# Altium footprint library Diode.PcbLib: 37 footprints (part 2 of 3)
Each footprint in its own frame and in the unit in brackets; x right, y up, seen from the top. Pads: shape width x height; smd on the part's side, far side on the other; paste and mask are expansions set on the pad; w line width, h text height; cw(c..) or ccw(c..) is an arc to the next point about the centre after c.
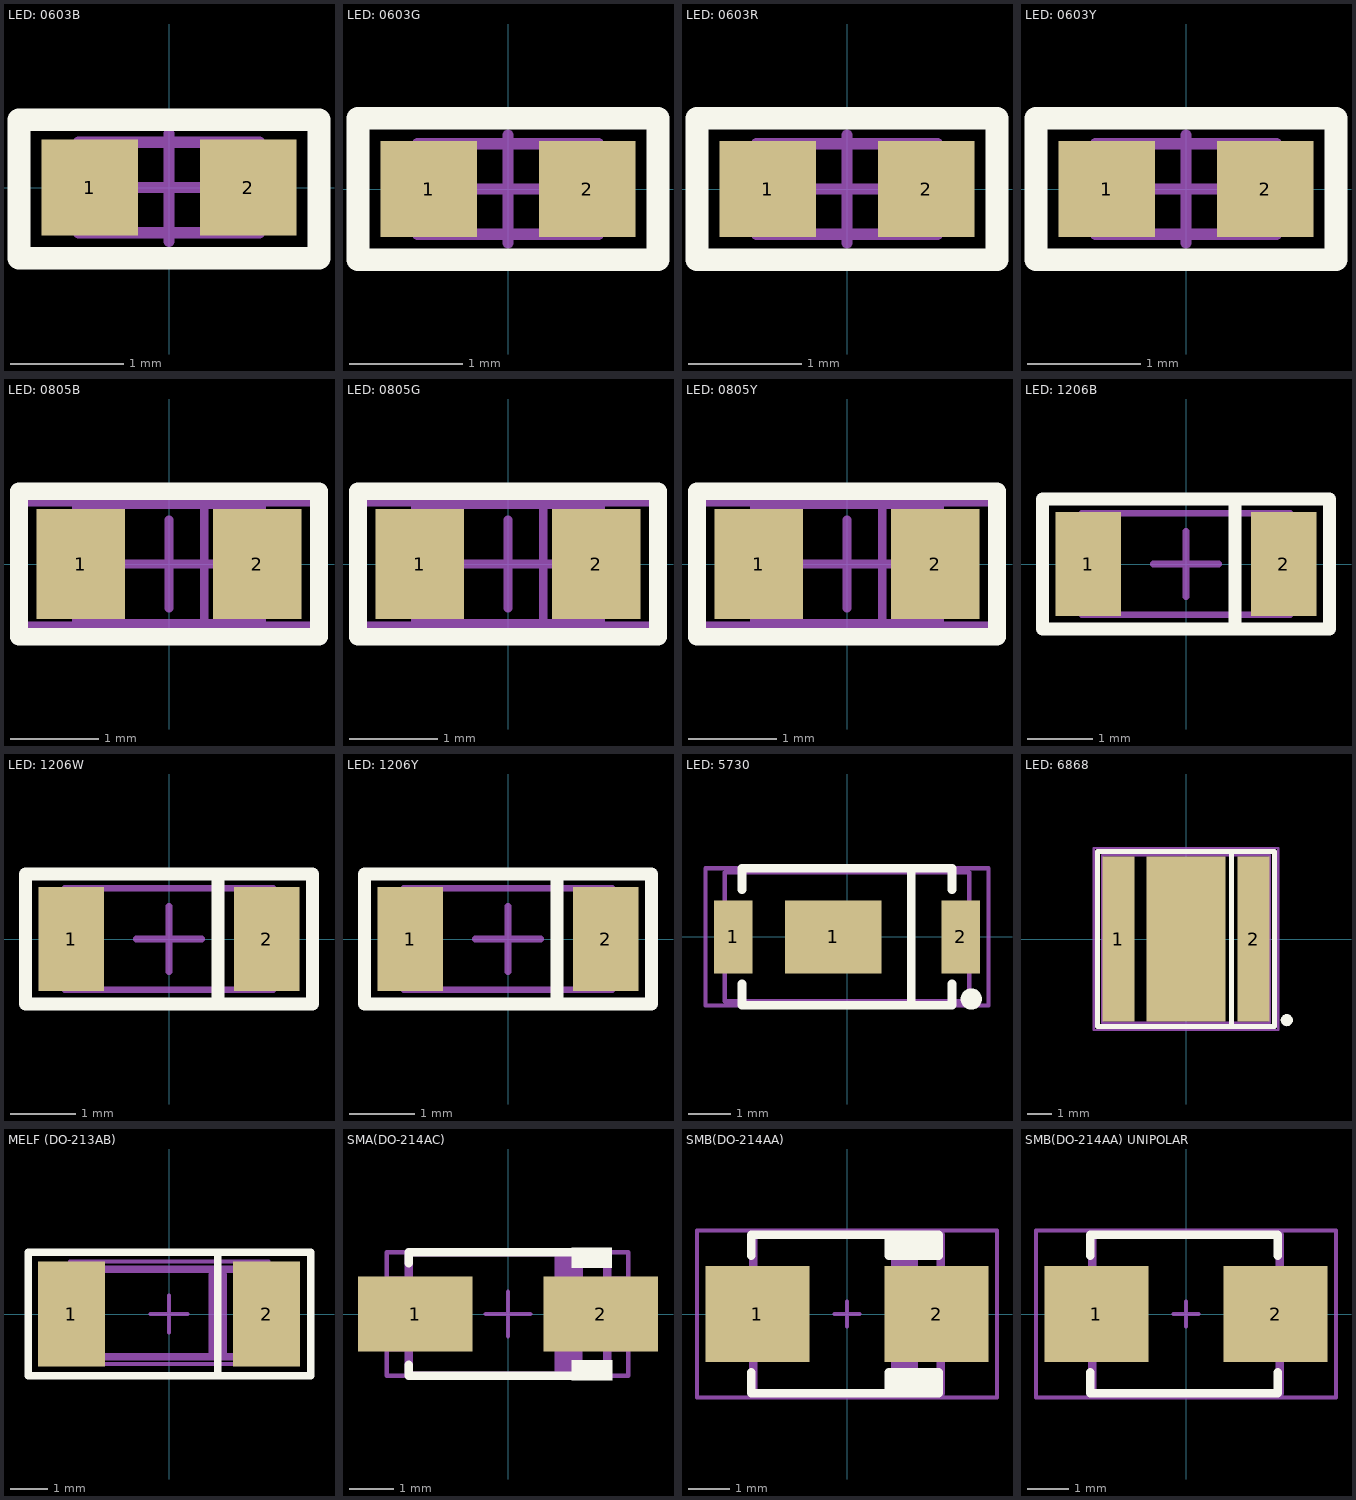
[diagram p1: the footprints below, top view; thin cyan lines are the x and y axes]

## LED: 0603B [mm]
height 0.45
pads (2):
  rect 0.85x0.85 smd: 1(-0.7,0) 2(0.7,0)
Top Overlay:
  lines w0.2: -1.325,-0.625 1.325,-0.625 1.325,0.6 -1.325,0.6 -1.325,-0.625
Top Assembly:
  lines w0.1: -0.8,-0.4 0.8,-0.4 0.8,0.4 -0.8,0.4 -0.8,-0.4
Area:
  lines w0.1: -0.475,0 0.475,0 ; 0,-0.475 0,0.475 ; -1.325,-0.625 -1.325,0.6 1.325,0.6 1.325,-0.625 -1.325,-0.625
3D body "User Library-LED_0603_B.STEP": height 0.6, standoff 0, extent -0.8,-0.4 0.8,0.4

## LED: 0603G [mm]
height 0.45
pads (2):
  rect 0.85x0.85 smd: 1(-0.7,0) 2(0.7,0)
Top Overlay:
  lines w0.2: -1.325,-0.625 -1.325,0.625 1.325,0.625 1.325,-0.625 -1.325,-0.625
Top Assembly:
  lines w0.1: -0.8,-0.4 -0.8,0.4 0.8,0.4 0.8,-0.4 -0.8,-0.4
Area:
  lines w0.1: -0.475,0 0.475,0 ; 0,-0.475 0,0.475 ; -1.325,-0.625 -1.325,0.6 1.325,0.6 1.325,-0.625 -1.325,-0.625
3D body "User Library-LED_0603_G.STEP": height 0.6, standoff 0, extent -0.8,-0.4 0.8,0.4

## LED: 0603R [mm]
height 0.45
pads (2):
  rect 0.85x0.85 smd: 1(-0.7,0) 2(0.7,0)
Top Overlay:
  lines w0.2: -1.325,-0.625 1.325,-0.625 1.325,0.625 -1.325,0.625 -1.325,-0.625
Top Assembly:
  lines w0.1: -0.8,-0.4 0.8,-0.4 0.8,0.4 -0.8,0.4 -0.8,-0.4
Area:
  lines w0.1: -0.475,0 0.475,0 ; 0,-0.475 0,0.475 ; -1.325,-0.625 1.325,-0.625 1.325,0.6 -1.325,0.6 -1.325,-0.625
3D body "User Library-LED_0603_R.STEP": height 0.6, standoff 0, extent -0.8,-0.4 0.8,0.4

## LED: 0603Y [mm]
height 0.45
pads (2):
  rect 0.85x0.85 smd: 1(-0.7,0) 2(0.7,0)
Top Overlay:
  lines w0.2: -1.325,-0.625 1.325,-0.625 1.325,0.625 -1.325,0.625 -1.325,-0.625
Top Assembly:
  lines w0.1: -0.8,-0.4 0.8,-0.4 0.8,0.4 -0.8,0.4 -0.8,-0.4
Area:
  lines w0.1: -0.475,0 0.475,0 ; 0,-0.475 0,0.475 ; -1.325,-0.625 1.325,-0.625 1.325,0.6 -1.325,0.6 -1.325,-0.625
3D body "User Library-LED_0603_Y.STEP": height 0.6, standoff 0, extent -0.8,-0.4 0.8,0.4

## LED: 0805B [mm]
height 1
pads (2):
  rect 1x1.25 smd: 1(-1,0) 2(1,0)
Top Overlay:
  lines w0.2: -1.7,-0.825 -1.7,0.825 1.7,0.825 1.7,-0.825 -1.7,-0.825
Top Assembly:
  lines w0.1: 0.4,-0.675 0.4,0.675 ; -1.05,-0.675 -1.05,0.675 1.05,0.675 1.05,-0.675 -1.05,-0.675
Area:
  lines w0.1: -0.5,0 0.5,0 ; 0,-0.5 0,0.5 ; -1.7,-0.7 1.7,-0.7 1.7,0.7 -1.7,0.7 -1.7,-0.7
3D body "LED 0805 - BLUE.STEP": height 0.9, standoff -0.01, extent -1.05,-0.675 1.05,0.675

## LED: 0805G [mm]
height 1
pads (2):
  rect 1x1.25 smd: 1(-1,0) 2(1,0)
Top Overlay:
  lines w0.2: -1.7,-0.825 -1.7,0.825 1.7,0.825 1.7,-0.825 -1.7,-0.825
Top Assembly:
  lines w0.1: 0.4,-0.675 0.4,0.675 ; -1.05,-0.675 -1.05,0.675 1.05,0.675 1.05,-0.675 -1.05,-0.675
Area:
  lines w0.1: -0.5,0 0.5,0 ; 0,-0.5 0,0.5 ; -1.7,-0.7 1.7,-0.7 1.7,0.7 -1.7,0.7 -1.7,-0.7
3D body "LED 0805 - GREEN.STEP": height 0.9, standoff -0.01, extent -1.05,-0.675 1.05,0.675

## LED: 0805Y [mm]
height 1
pads (2):
  rect 1x1.25 smd: 1(-1,0) 2(1,0)
Top Overlay:
  lines w0.2: -1.7,-0.825 1.7,-0.825 1.7,0.825 -1.7,0.825 -1.7,-0.825
Top Assembly:
  lines w0.1: 0.4,-0.675 0.4,0.675 ; -1.05,-0.675 -1.05,0.675 1.05,0.675 1.05,-0.675 -1.05,-0.675
Area:
  lines w0.1: -0.5,0 0.5,0 ; 0,-0.5 0,0.5 ; -1.7,-0.7 -1.7,0.7 1.7,0.7 1.7,-0.7 -1.7,-0.7
3D body "orange.STEP": height 0.9, standoff -0.01, extent -1.05,-0.675 1.05,0.675

## LED: 1206B [mm]
height 0.6
pads (2):
  rect 1x1.6 smd: 1(-1.5,0) 2(1.5,0)
Top Overlay:
  lines w0.2: 0.75,-1 0.75,1 ; -2.2,-1 -2.2,1 2.2,1 2.2,-1 -2.2,-1
Top Assembly:
  lines w0.1: -1.6,-0.775 -1.6,0.775 1.6,0.775 1.6,-0.775 -1.6,-0.775
Area:
  lines w0.1: -0.5,0 0.5,0 ; 0,-0.5 0,0.5 ; -2.2,-1 2.2,-1 2.2,1 -2.2,1 -2.2,-1
3D body "User Library-FYLS-1206.step": height 1.1, standoff 0, extent -1.6,-0.8 1.6,0.8

## LED: 1206W [mm]
height 0.6
pads (2):
  rect 1x1.6 smd: 1(-1.5,0) 2(1.5,0)
Top Overlay:
  lines w0.2: 0.75,-1 0.75,1 ; -2.2,-1 -2.2,1 2.2,1 2.2,-1 -2.2,-1
Top Assembly:
  lines w0.1: -1.6,-0.775 -1.6,0.775 1.6,0.775 1.6,-0.775 -1.6,-0.775
Area:
  lines w0.1: -0.5,0 0.5,0 ; 0,-0.5 0,0.5 ; -2.2,-1 2.2,-1 2.2,1 -2.2,1 -2.2,-1
3D body "User Library-FYLS-1206.step": height 1.1, standoff 0, extent -1.6,-0.8 1.6,0.8

## LED: 1206Y [mm]
height 0.6
pads (2):
  rect 1x1.6 smd: 1(-1.5,0) 2(1.5,0)
Top Overlay:
  lines w0.2: 0.75,-1 0.75,1 ; -2.2,-1 2.2,-1 2.2,1 -2.2,1 -2.2,-1
Top Assembly:
  lines w0.1: -1.6,-0.775 1.6,-0.775 1.6,0.775 -1.6,0.775 -1.6,-0.775
Area:
  lines w0.1: -0.5,0 0.5,0 ; 0,-0.5 0,0.5 ; -2.2,-1 -2.2,1 2.2,1 2.2,-1 -2.2,-1
3D body "User Library-FYLS-1206.step": height 1.1, standoff 0, extent -1.6,-0.8 1.6,0.8

## LED: 5730 [mm]
pads (4):
  rect 0.9x1.7 smd: 1(-2.65,0) 2(2.65,0)
  rect 2.25x1.7 smd: 1(-0.32,0)
  round 0.5 on Top Overlay: ""(2.9,-1.45)
Top Overlay:
  lines w0.2: -2.45,-1.1 -2.45,-1.6 0,-1.6 2.45,-1.6 2.45,-1.1 ; -2.45,1.1 -2.45,1.6 0,1.6 2.45,1.6 2.45,1.1 ; 1.5,-1.6 1.5,1.6
Top Assembly:
  lines w0.1: -2.85,-1.5 2.85,-1.5 2.85,1.5 -2.85,1.5 -2.85,-1.5
Area:
  lines w0.1: -0.3,0 0.3,0 ; 0,-0.3 0,0.3 ; -3.3,-1.6 -3.3,1.6 3.3,1.6 3.3,-1.6 -3.3,-1.6
3D body "LED 5730.stp": height 0.84, standoff 0.04, extent -2.85,-1.5 2.85,1.5

## LED: 6868 [mm]
pads (4):
  rect 1.3x6.7 smd: 1(-2.75,0) 2(2.75,0)
  rect 3.2x6.7 smd: ""(0,0)
  round 0.5 on Top Overlay: ""(4.1,-3.3)
Top Overlay:
  lines w0.2: 1.85,-3.55 1.85,3.5 ; -3.6,-3.55 -3.6,3.55 3.6,3.55 3.6,-3.55 -3.6,-3.55
Top Assembly:
  lines w0.1: 1.85,-3.4 1.85,3.4 ; -3.4,-3.4 3.4,-3.4 3.4,3.4 -3.4,3.4 -3.4,-3.4
Area:
  lines w0.1: -0.3,0 0.3,0 ; 0,-0.3 0,0.3 ; -3.75,-3.7 3.75,-3.7 3.75,3.7 -3.75,3.7 -3.75,-3.7
3D body "6666.STEP": height 1.55, standoff 0, extent -3.4,-3.4 3.4,3.4

## MELF (DO-213AB) [mm] "MELF Diode, 2-Leads, Body 5,01x2,53mm, IPC Medium Density"
height 2.67
pads (2):
  rect 1.8x2.8 smd: 1(-2.6,0) 2(2.6,0)
Top Overlay:
  lines w0.2: 1.3,-1.6 1.3,1.6 ; -3.75,-1.65 -3.75,1.65 3.775,1.65 3.775,-1.65 -3.75,-1.65
Top Assembly:
  lines w0.2: -1.969,-1.137 2,-1.138 ; -1.966,1.259 -2.486,1.259 -2.486,-1.22 -1.966,-1.22 -1.966,1.189 -1.959,1.196 2.004,1.196 2.004,-1.23 2.502,-1.23 2.502,1.259 2.004,1.259
  lines w0.5: 1.3,-0.988 1.3,1.029
  text "+" at -1.8,-0.6 h2
  text "'.Designator'" at -0.4,-0.15 h1
Area:
  lines w0.1: -0.5,0 0.5,0 ; 0,-0.5 0,0.5 ; -2.648,-1.331 2.653,-1.331 2.653,1.398 -2.648,1.398 -2.648,-1.331
3D body "MELF (DO-213AB).step": height 2.69, standoff 0.01, extent -2.575,-1.325 2.625,1.345

## SMA(DO-214AC) [mm]
pads (2):
  rect 2.6x1.7 smd: 1(-2.1,0) 2(2.1,0)
Top Overlay:
  region: 1.45,1.05 2.35,1.05 2.35,1.5 1.45,1.5
  region: 1.45,-1.5 2.365,-1.5 2.365,-1.05 1.45,-1.05
  lines w0.2: -2.25,-1.15 -2.25,-1.4 1.45,-1.4 ; -2.25,1.15 -2.25,1.4 1.451,1.4
Top Assembly:
  region: 1.15,-1.45 1.6,-1.45 1.6,1.45 1.15,1.45
  lines w0.2: -2.25,-0.75 -2.75,-0.75 -2.75,0.75 -2.25,0.75 ; 1.15,-1.396 1.15,1.401 ; 1.592,-1.396 1.6,1.394 ; 2.25,-0.75 2.75,-0.75 2.75,0.75 2.25,0.75 ; -2.25,-1.4 2.25,-1.4 2.25,1.4 -2.25,1.4 -2.25,-1.4
  text "+" at -2.1,-0.575 h2
  text "'.Designator'" at -0.4,-0.15 h1
Area:
  lines w0.1: -0.5,0 0.5,0 ; 0,-0.5 0,0.5 ; -2.75,-1.4 -2.75,1.4 2.725,1.4 2.725,-1.4 -2.75,-1.4
3D body "SMA (DO-214AC) Diode.step": height 2.6, standoff 0.03, extent -2.75,-1.4 2.75,1.4

## SMB(DO-214AA) [mm]
pads (2):
  rect 2.5x2.3 smd: 1(-2.15,0) 2(2.15,0)
Top Overlay:
  rectangle: 1,1.4 2.2,2
  rectangle: 1,-2 2.2,-1.4
  lines w0.2: -2.3,-1.4 -2.3,-1.9 2.2,-1.9 2.2,-1.4 1,-1.4 1,-1.9 ; -2.3,1.4 -2.3,1.9 2.2,1.9 2.2,1.4 1,1.4 1,1.9
Top Assembly:
  region: 1.15,-1.9 1.6,-1.9 1.6,1.9 1.15,1.9
  lines w0.2: -2.25,-1.05 -2.75,-1.05 -2.75,1.05 -2.25,1.05 ; 1.15,-1.8 1.15,1.8 ; 1.6,-1.8 1.6,1.8 ; 2.25,-1.05 2.75,-1.05 2.75,1.05 2.25,1.05 ; -2.25,-1.9 -2.25,1.9 2.25,1.9 2.25,-1.9 -2.25,-1.9
  text "'.Designator'" at -0.925,-0.325 h1
  text "+" at -2.1,-0.575 h2
Area:
  lines w0.1: -0.3,0 0.3,0 ; 0,-0.3 0,0.3 ; -3.6,-2 -3.6,2 3.6,2 3.6,-2 -3.6,-2
3D body "User Library-DIOM5539X24.STEP": height 2.45, standoff 0.03, extent -2.75,-1.95 2.75,1.95

## SMB(DO-214AA) UNIPOLAR [mm]
pads (2):
  rect 2.5x2.3 smd: 1(-2.15,0) 2(2.15,0)
Top Overlay:
  lines w0.2: -2.3,-1.4 -2.3,-1.9 2.2,-1.9 2.2,-1.4 ; -2.3,1.4 -2.3,1.9 2.2,1.9 2.2,1.4
Top Assembly:
  lines w0.2: -2.25,-1.05 -2.75,-1.05 -2.75,1.05 -2.25,1.05 ; 2.25,-1.05 2.75,-1.05 2.75,1.05 2.25,1.05 ; -2.25,-1.9 -2.25,1.9 2.25,1.9 2.25,-1.9 -2.25,-1.9
  text "'.Designator'" at -0.925,-0.325 h1
Area:
  lines w0.1: -0.3,0 0.3,0 ; 0,-0.3 0,0.3 ; -3.6,-2 -3.6,2 3.6,2 3.6,-2 -3.6,-2
3D body "User Library-DIOM5539X24.STEP": height 2.45, standoff 0.03, extent -2.75,-1.95 2.75,1.95